# Altium footprint library CRY2016.PcbLib: 1 footprints
Each footprint in its own frame and in the unit in brackets; x right, y up, seen from the top. Pads: shape width x height; smd on the part's side, far side on the other; paste and mask are expansions set on the pad; w line width, h text height; cw(c..) or ccw(c..) is an arc to the next point about the centre after c.
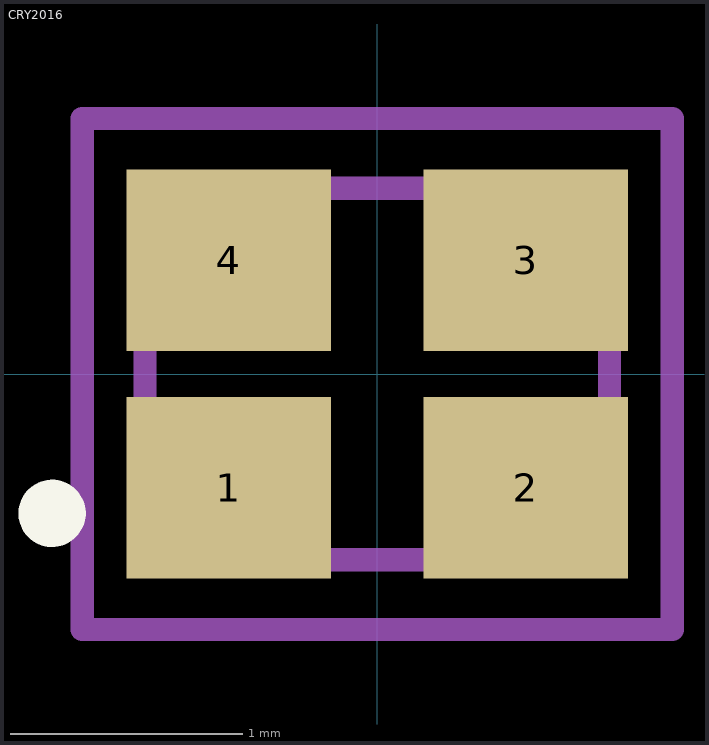
[diagram p0: the footprint, top view; thin cyan lines are the x and y axes]

## CRY2016 [mm]
pads (4):
  rect 0.88x0.78 smd: 1(-0.64,-0.49) 2(0.64,-0.49) 3(0.64,0.49) 4(-0.64,0.49)
Top Overlay:
  circle w0.15: c-1.4,-0.6 r0.07
Mechanical 13:
  lines w0.1: -1,-0.8 1,-0.8 1,0.8 -1,0.8 -1,-0.8
Mechanical 15:
  lines w0.1: -1.27,-1.1 -1.27,1.1 1.27,1.1 1.27,-1.1 -1.27,-1.1
3D body: height 0.5, standoff -0.05, extent -1.013,-0.8 1.01,0.8